# Altium integrated library Molex FFC - FPC Connectors (SMT).IntLib: 638 symbols (part 15 of 20)
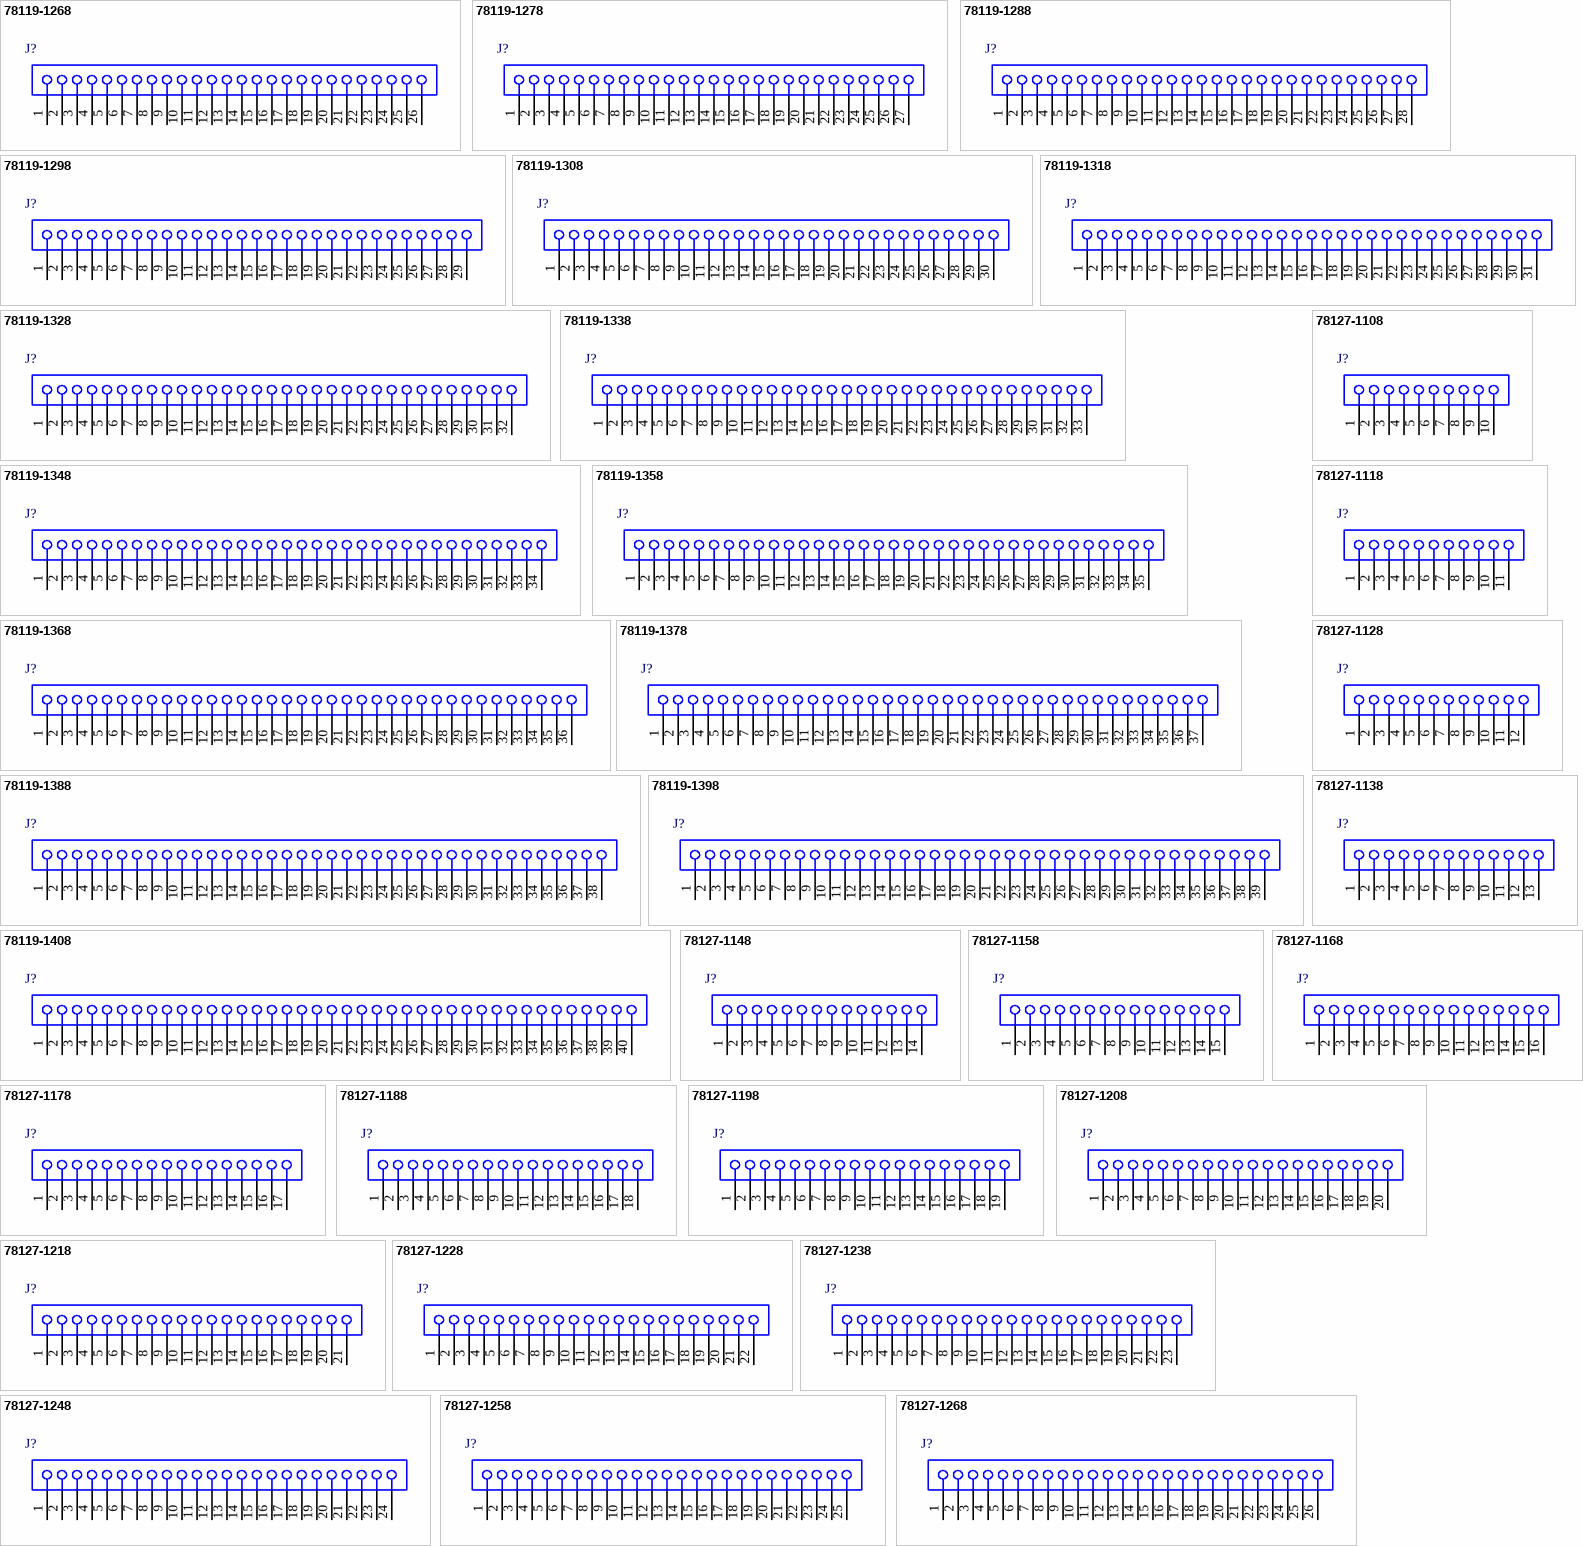
[diagram p35: symbols 78119-1268 to 78127-1268]

## 78127-1118
designator J?
0.5 mm Pitch Easy-On(TM) Type FPC Connector, 4.1 mm Mated Height, Vertical, Non-ZIF, SMT, 11 Circuits, -40 to 85 degC, ELV and RoHS Compliant, Tape and Reel; Manufacturer: Molex; PartNumber: 78127-1118; Circuits (Loaded): 11; Current (Max per Contact): 0.5A; Durability (mating cycles max): 20; Mated Height: 4.10mm; Material - Metal: Copper Alloy; Material - Plating Mating: Gold, Nickel; PCB Locator: No; PCB Retention: None; Pitch - Mating Interface: 0.50mm; Voltage (Max): 50V AC; PackageVersion: Rev. B, 12/2012; PackageReference: 78127-1118; PackageDescription: 11-Lead FPC Connector, Pitch 0.5 mm; Circuits (maximum): 11; Contact Position: N/A; Entry Angle: Vertical; Number of Rows: 1; Orientation: Vertical; Packing: Tape and Reel; Pitch - Termination Interface: 0.50mm; Polarized to PCB: No; RoHS: TRUE; Stackable: No; Mounting Technology: Surface Mount; ComponentLink1Description: Manufacturer URL; ComponentLink1URL: http://www.molex.com/molex/index.jsp; ComponentLink2Description: Datasheet; ComponentLink2URL: http://www.molex.com/webdocs/datasheets/pdf/en-us/0781271118_FFC_FPC_CONNECTORS.pdf; ComponentLink3Description: Package Specification; ComponentLink3URL: http://www.molex.com/pdm_docs/sd/781271118_sd.pdf
footprint MOLX-78127-1118 (FPC Connector, 11-Leads, Vertical, Pitch 0.5 mm, Mated Height 4.1 mm, SMT)
pins: 1, 2, 3, 4, 5, 6, 7, 8, 9, 10, 11

## 78127-1128
designator J?
0.5 mm Pitch Easy-On(TM) Type FPC Connector, 4.1 mm Mated Height, Vertical, Non-ZIF, SMT, 12 Circuits, -40 to 85 degC, ELV and RoHS Compliant, Tape and Reel; Manufacturer: Molex; PartNumber: 78127-1128; Circuits (Loaded): 12; Current (Max per Contact): 0.5A; Durability (mating cycles max): 20; Mated Height: 4.10mm; Material - Metal: Copper Alloy; Material - Plating Mating: Gold, Nickel; PCB Locator: No; PCB Retention: None; Pitch - Mating Interface: 0.50mm; Voltage (Max): 50V AC; PackageVersion: Rev. B, 12/2012; PackageReference: 78127-1128; PackageDescription: 12-Lead FPC Connector, Pitch 0.5 mm; Circuits (maximum): 12; Contact Position: N/A; Entry Angle: Vertical; Number of Rows: 1; Orientation: Vertical; Packing: Tape and Reel; Pitch - Termination Interface: 0.50mm; Polarized to PCB: No; RoHS: TRUE; Stackable: No; Mounting Technology: Surface Mount; ComponentLink1Description: Manufacturer URL; ComponentLink1URL: http://www.molex.com/molex/index.jsp; ComponentLink2Description: Datasheet; ComponentLink2URL: http://www.molex.com/webdocs/datasheets/pdf/en-us/0781271128_FFC_FPC_CONNECTORS.pdf; ComponentLink3Description: Package Specification; ComponentLink3URL: http://www.molex.com/pdm_docs/sd/781271128_sd.pdf
footprint MOLX-78127-1128 (FPC Connector, 12-Leads, Vertical, Pitch 0.5 mm, Mated Height 4.1 mm, SMT)
pins: 1, 2, 3, 4, 5, 6, 7, 8, 9, 10, 11, 12

## 78127-1138
designator J?
0.5 mm Pitch Easy-On(TM) Type FPC Connector, 4.1 mm Mated Height, Vertical, Non-ZIF, SMT, 13 Circuits, -40 to 85 degC, ELV and RoHS Compliant, Tape and Reel; Manufacturer: Molex; PartNumber: 78127-1138; Circuits (Loaded): 13; Current (Max per Contact): 0.5A; Durability (mating cycles max): 20; Mated Height: 4.10mm; Material - Metal: Copper Alloy; Material - Plating Mating: Gold, Nickel; PCB Locator: No; PCB Retention: None; Pitch - Mating Interface: 0.50mm; Voltage (Max): 50V AC; PackageVersion: Rev. B, 12/2012; PackageReference: 78127-1138; PackageDescription: 13-Lead FPC Connector, Pitch 0.5 mm; Circuits (maximum): 13; Contact Position: N/A; Entry Angle: Vertical; Number of Rows: 1; Orientation: Vertical; Packing: Tape and Reel; Pitch - Termination Interface: 0.50mm; Polarized to PCB: No; RoHS: TRUE; Stackable: No; Mounting Technology: Surface Mount; ComponentLink1Description: Manufacturer URL; ComponentLink1URL: http://www.molex.com/molex/index.jsp; ComponentLink2Description: Datasheet; ComponentLink2URL: http://www.molex.com/webdocs/datasheets/pdf/en-us/0781271138_FFC_FPC_CONNECTORS.pdf; ComponentLink3Description: Package Specification; ComponentLink3URL: http://www.molex.com/pdm_docs/sd/781271138_sd.pdf
footprint MOLX-78127-1138 (FPC Connector, 13-Leads, Vertical, Pitch 0.5 mm, Mated Height 4.1 mm, SMT)
pins: 1, 2, 3, 4, 5, 6, 7, 8, 9, 10, 11, 12, 13

## 78127-1148
designator J?
0.5 mm Pitch Easy-On(TM) Type FPC Connector, 4.1 mm Mated Height, Vertical, Non-ZIF, SMT, 14 Circuits, -40 to 85 degC, ELV and RoHS Compliant, Tape and Reel; Manufacturer: Molex; PartNumber: 78127-1148; Circuits (Loaded): 14; Current (Max per Contact): 0.5A; Durability (mating cycles max): 20; Mated Height: 4.10mm; Material - Metal: Copper Alloy; Material - Plating Mating: Gold, Nickel; PCB Locator: No; PCB Retention: None; Pitch - Mating Interface: 0.50mm; Voltage (Max): 50V AC; PackageVersion: Rev. B, 12/2012; PackageReference: 78127-1148; PackageDescription: 14-Lead FPC Connector, Pitch 0.5 mm; Circuits (maximum): 14; Contact Position: N/A; Entry Angle: Vertical; Number of Rows: 1; Orientation: Vertical; Packing: Tape and Reel; Pitch - Termination Interface: 0.50mm; Polarized to PCB: No; RoHS: TRUE; Stackable: No; Mounting Technology: Surface Mount; ComponentLink1Description: Manufacturer URL; ComponentLink1URL: http://www.molex.com/molex/index.jsp; ComponentLink2Description: Datasheet; ComponentLink2URL: http://www.molex.com/webdocs/datasheets/pdf/en-us/0781271148_FFC_FPC_CONNECTORS.pdf; ComponentLink3Description: Package Specification; ComponentLink3URL: http://www.molex.com/pdm_docs/sd/781271148_sd.pdf
footprint MOLX-78127-1148 (FPC Connector, 14-Leads, Vertical, Pitch 0.5 mm, Mated Height 4.1 mm, SMT)
pins: 1, 2, 3, 4, 5, 6, 7, 8, 9, 10, 11, 12, 13, 14

## 78127-1158
designator J?
0.5 mm Pitch Easy-On(TM) Type FPC Connector, 4.1 mm Mated Height, Vertical, Non-ZIF, SMT, 15 Circuits, -40 to 85 degC, ELV and RoHS Compliant, Tape and Reel; Manufacturer: Molex; PartNumber: 78127-1158; Circuits (Loaded): 15; Current (Max per Contact): 0.5A; Durability (mating cycles max): 20; Mated Height: 4.10mm; Material - Metal: Copper Alloy; Material - Plating Mating: Gold, Nickel; PCB Locator: No; PCB Retention: None; Pitch - Mating Interface: 0.50mm; Voltage (Max): 50V AC; PackageVersion: Rev. B, 12/2012; PackageReference: 78127-1158; PackageDescription: 15-Lead FPC Connector, Pitch 0.5 mm; Circuits (maximum): 15; Contact Position: N/A; Entry Angle: Vertical; Number of Rows: 1; Orientation: Vertical; Packing: Tape and Reel; Pitch - Termination Interface: 0.50mm; Polarized to PCB: No; RoHS: TRUE; Stackable: No; Mounting Technology: Surface Mount; ComponentLink1Description: Manufacturer URL; ComponentLink1URL: http://www.molex.com/molex/index.jsp; ComponentLink2Description: Datasheet; ComponentLink2URL: http://www.molex.com/webdocs/datasheets/pdf/en-us/0781271158_FFC_FPC_CONNECTORS.pdf; ComponentLink3Description: Package Specification; ComponentLink3URL: http://www.molex.com/pdm_docs/sd/781271158_sd.pdf
footprint MOLX-78127-1158 (FPC Connector, 15-Leads, Vertical, Pitch 0.5 mm, Mated Height 4.1 mm, SMT)
pins: 1, 2, 3, 4, 5, 6, 7, 8, 9, 10, 11, 12, 13, 14, 15

## 78127-1168
designator J?
0.5 mm Pitch Easy-On(TM) Type FPC Connector, 4.1 mm Mated Height, Vertical, Non-ZIF, SMT, 16 Circuits, -40 to 85 degC, ELV and RoHS Compliant, Tape and Reel; Manufacturer: Molex; PartNumber: 78127-1168; Circuits (Loaded): 16; Current (Max per Contact): 0.5A; Durability (mating cycles max): 20; Mated Height: 4.10mm; Material - Metal: Copper Alloy; Material - Plating Mating: Gold, Nickel; PCB Locator: No; PCB Retention: None; Pitch - Mating Interface: 0.50mm; Voltage (Max): 50V AC; PackageVersion: Rev. B, 12/2012; PackageReference: 78127-1168; PackageDescription: 16-Lead FPC Connector, Pitch 0.5 mm; Circuits (maximum): 16; Contact Position: N/A; Entry Angle: Vertical; Number of Rows: 1; Orientation: Vertical; Packing: Tape and Reel; Pitch - Termination Interface: 0.50mm; Polarized to PCB: No; RoHS: TRUE; Stackable: No; Mounting Technology: Surface Mount; ComponentLink1Description: Manufacturer URL; ComponentLink1URL: http://www.molex.com/molex/index.jsp; ComponentLink2Description: Datasheet; ComponentLink2URL: http://www.molex.com/webdocs/datasheets/pdf/en-us/0781271168_FFC_FPC_CONNECTORS.pdf; ComponentLink3Description: Package Specification; ComponentLink3URL: http://www.molex.com/pdm_docs/sd/781271168_sd.pdf
footprint MOLX-78127-1168 (FPC Connector, 16-Leads, Vertical, Pitch 0.5 mm, Mated Height 4.1 mm, SMT)
pins: 1, 2, 3, 4, 5, 6, 7, 8, 9, 10, 11, 12, 13, 14, 15, 16

## 78127-1178
designator J?
0.5 mm Pitch Easy-On(TM) Type FPC Connector, 4.1 mm Mated Height, Vertical, Non-ZIF, SMT, 17 Circuits, -40 to 85 degC, ELV and RoHS Compliant, Tape and Reel; Manufacturer: Molex; PartNumber: 78127-1178; Circuits (Loaded): 17; Current (Max per Contact): 0.5A; Durability (mating cycles max): 20; Mated Height: 4.10mm; Material - Metal: Copper Alloy; Material - Plating Mating: Gold, Nickel; PCB Locator: No; PCB Retention: None; Pitch - Mating Interface: 0.50mm; Voltage (Max): 50V AC; PackageVersion: Rev. B, 12/2012; PackageReference: 78127-1178; PackageDescription: 17-Lead FPC Connector, Pitch 0.5 mm; Circuits (maximum): 17; Contact Position: N/A; Entry Angle: Vertical; Number of Rows: 1; Orientation: Vertical; Packing: Tape and Reel; Pitch - Termination Interface: 0.50mm; Polarized to PCB: No; RoHS: TRUE; Stackable: No; Mounting Technology: Surface Mount; ComponentLink1Description: Manufacturer URL; ComponentLink1URL: http://www.molex.com/molex/index.jsp; ComponentLink2Description: Datasheet; ComponentLink2URL: http://www.molex.com/webdocs/datasheets/pdf/en-us/0781271178_FFC_FPC_CONNECTORS.pdf; ComponentLink3Description: Package Specification; ComponentLink3URL: http://www.molex.com/pdm_docs/sd/781271178_sd.pdf
footprint MOLX-78127-1178 (FPC Connector, 17-Leads, Vertical, Pitch 0.5 mm, Mated Height 4.1 mm, SMT)
pins: 1, 2, 3, 4, 5, 6, 7, 8, 9, 10, 11, 12, 13, 14, 15, 16, 17

## 78127-1188
designator J?
0.5 mm Pitch Easy-On(TM) Type FPC Connector, 4.1 mm Mated Height, Vertical, Non-ZIF, SMT, 18 Circuits, -40 to 85 degC, ELV and RoHS Compliant, Tape and Reel; Manufacturer: Molex; PartNumber: 78127-1188; Circuits (Loaded): 18; Current (Max per Contact): 0.5A; Durability (mating cycles max): 20; Mated Height: 4.10mm; Material - Metal: Copper Alloy; Material - Plating Mating: Gold, Nickel; PCB Locator: No; PCB Retention: None; Pitch - Mating Interface: 0.50mm; Voltage (Max): 50V AC; PackageVersion: Rev. B, 12/2012; PackageReference: 78127-1188; PackageDescription: 18-Lead FPC Connector, Pitch 0.5 mm; Circuits (maximum): 18; Contact Position: N/A; Entry Angle: Vertical; Number of Rows: 1; Orientation: Vertical; Packing: Tape and Reel; Pitch - Termination Interface: 0.50mm; Polarized to PCB: No; RoHS: TRUE; Stackable: No; Mounting Technology: Surface Mount; ComponentLink1Description: Manufacturer URL; ComponentLink1URL: http://www.molex.com/molex/index.jsp; ComponentLink2Description: Datasheet; ComponentLink2URL: http://www.molex.com/webdocs/datasheets/pdf/en-us/0781271188_FFC_FPC_CONNECTORS.pdf; ComponentLink3Description: Package Specification; ComponentLink3URL: http://www.molex.com/pdm_docs/sd/781271188_sd.pdf
footprint MOLX-78127-1188 (FPC Connector, 18-Leads, Vertical, Pitch 0.5 mm, Mated Height 4.1 mm, SMT)
pins: 1, 2, 3, 4, 5, 6, 7, 8, 9, 10, 11, 12, 13, 14, 15, 16, 17, 18

## 78127-1198
designator J?
0.5 mm Pitch Easy-On(TM) Type FPC Connector, 4.1 mm Mated Height, Vertical, Non-ZIF, SMT, 19 Circuits, -40 to 85 degC, ELV and RoHS Compliant, Tape and Reel; Manufacturer: Molex; PartNumber: 78127-1198; Circuits (Loaded): 19; Current (Max per Contact): 0.5A; Durability (mating cycles max): 20; Mated Height: 4.10mm; Material - Metal: Copper Alloy; Material - Plating Mating: Gold, Nickel; PCB Locator: No; PCB Retention: None; Pitch - Mating Interface: 0.50mm; Voltage (Max): 50V AC; PackageVersion: Rev. B, 12/2012; PackageReference: 78127-1198; PackageDescription: 19-Lead FPC Connector, Pitch 0.5 mm; Circuits (maximum): 19; Contact Position: N/A; Entry Angle: Vertical; Number of Rows: 1; Orientation: Vertical; Packing: Tape and Reel; Pitch - Termination Interface: 0.50mm; Polarized to PCB: No; RoHS: TRUE; Stackable: No; Mounting Technology: Surface Mount; ComponentLink1Description: Manufacturer URL; ComponentLink1URL: http://www.molex.com/molex/index.jsp; ComponentLink2Description: Datasheet; ComponentLink2URL: http://www.molex.com/webdocs/datasheets/pdf/en-us/0781271198_FFC_FPC_CONNECTORS.pdf; ComponentLink3Description: Package Specification; ComponentLink3URL: http://www.molex.com/pdm_docs/sd/781271198_sd.pdf
footprint MOLX-78127-1198 (FPC Connector, 19-Leads, Vertical, Pitch 0.5 mm, Mated Height 4.1 mm, SMT)
pins: 1, 2, 3, 4, 5, 6, 7, 8, 9, 10, 11, 12, 13, 14, 15, 16, 17, 18, 19

## 78127-1208
designator J?
0.5 mm Pitch Easy-On(TM) Type FPC Connector, 4.1 mm Mated Height, Vertical, Non-ZIF, SMT, 20 Circuits, -40 to 85 degC, ELV and RoHS Compliant, Tape and Reel; Manufacturer: Molex; PartNumber: 78127-1208; Circuits (Loaded): 20; Current (Max per Contact): 0.5A; Mated Height: 4.10mm; Material - Metal: Copper Alloy; Material - Plating Mating: Gold, Nickel; PCB Locator: No; PCB Retention: None; Pitch - Mating Interface: 0.50mm; Voltage (Max): 50V AC; PackageVersion: Rev. B, 12/2012; PackageReference: 78127-1208; PackageDescription: 20-Lead FPC Connector, Pitch 0.5 mm; Circuits (maximum): 20; Contact Position: N/A; Durability (mating cycles max): 20; Entry Angle: Vertical; Number of Rows: 1; Orientation: Vertical; Packing: Tape and Reel; Pitch - Termination Interface: 0.50mm; Polarized to PCB: No; RoHS: TRUE; Stackable: No; Mounting Technology: Surface Mount; ComponentLink1Description: Manufacturer URL; ComponentLink1URL: http://www.molex.com/molex/index.jsp; ComponentLink2Description: Datasheet; ComponentLink2URL: http://www.molex.com/webdocs/datasheets/pdf/en-us/0781271208_FFC_FPC_CONNECTORS.pdf; ComponentLink3Description: Package Specification; ComponentLink3URL: http://www.molex.com/pdm_docs/sd/781271208_sd.pdf
footprint MOLX-78127-1208 (FPC Connector, 20-Leads, Vertical, Pitch 0.5 mm, Mated Height 4.1 mm, SMT)
pins: 1, 2, 3, 4, 5, 6, 7, 8, 9, 10, 11, 12, 13, 14, 15, 16, 17, 18, 19, 20

## 78127-1218
designator J?
0.5 mm Pitch Easy-On(TM) Type FPC Connector, 4.1 mm Mated Height, Vertical, Non-ZIF, SMT, 21 Circuits, -40 to 85 degC, ELV and RoHS Compliant, Tape and Reel; Manufacturer: Molex; PartNumber: 78127-1218; Circuits (Loaded): 21; Current (Max per Contact): 0.5A; Durability (mating cycles max): 20; Mated Height: 4.10mm; Material - Metal: Copper Alloy; Material - Plating Mating: Gold, Nickel; PCB Locator: No; PCB Retention: None; Pitch - Mating Interface: 0.50mm; Voltage (Max): 50V AC; PackageVersion: Rev. B, 12/2012; PackageReference: 78127-1218; PackageDescription: 21-Lead FPC Connector, Pitch 0.5 mm; Circuits (maximum): 21; Contact Position: N/A; Entry Angle: Vertical; Number of Rows: 1; Orientation: Vertical; Packing: Tape and Reel; Pitch - Termination Interface: 0.50mm; Polarized to PCB: No; RoHS: TRUE; Stackable: No; Mounting Technology: Surface Mount; ComponentLink1Description: Manufacturer URL; ComponentLink1URL: http://www.molex.com/molex/index.jsp; ComponentLink2Description: Datasheet; ComponentLink2URL: http://www.molex.com/webdocs/datasheets/pdf/en-us/0781271218_FFC_FPC_CONNECTORS.pdf; ComponentLink3Description: Package Specification; ComponentLink3URL: http://www.molex.com/pdm_docs/sd/781271218_sd.pdf
footprint MOLX-78127-1218 (FPC Connector, 21-Leads, Vertical, Pitch 0.5 mm, Mated Height 4.1 mm, SMT)
pins: 1, 2, 3, 4, 5, 6, 7, 8, 9, 10, 11, 12, 13, 14, 15, 16, 17, 18, 19, 20, 21

## 78127-1228
designator J?
0.5 mm Pitch Easy-On(TM) Type FPC Connector, 4.1 mm Mated Height, Vertical, Non-ZIF, SMT, 22 Circuits, -40 to 85 degC, ELV and RoHS Compliant, Tape and Reel; Manufacturer: Molex; PartNumber: 78127-1228; Circuits (Loaded): 22; Current (Max per Contact): 0.5A; Durability (mating cycles max): 20; Mated Height: 4.10mm; Material - Metal: Copper Alloy; Material - Plating Mating: Gold, Nickel; PCB Locator: No; PCB Retention: None; Pitch - Mating Interface: 0.50mm; Voltage (Max): 50V AC; PackageVersion: Rev. B, 12/2012; PackageReference: 78127-1228; PackageDescription: 22-Lead FPC Connector, Pitch 0.5 mm; Circuits (maximum): 22; Contact Position: N/A; Entry Angle: Vertical; Number of Rows: 1; Orientation: Vertical; Packing: Tape and Reel; Pitch - Termination Interface: 0.50mm; Polarized to PCB: No; RoHS: TRUE; Stackable: No; Mounting Technology: Surface Mount; ComponentLink1Description: Manufacturer URL; ComponentLink1URL: http://www.molex.com/molex/index.jsp; ComponentLink2Description: Datasheet; ComponentLink2URL: http://www.molex.com/webdocs/datasheets/pdf/en-us/0781271228_FFC_FPC_CONNECTORS.pdf; ComponentLink3Description: Package Specification; ComponentLink3URL: http://www.molex.com/pdm_docs/sd/781271228_sd.pdf
footprint MOLX-78127-1228 (FPC Connector, 22-Leads, Vertical, Pitch 0.5 mm, Mated Height 4.1 mm, SMT)
pins: 1, 2, 3, 4, 5, 6, 7, 8, 9, 10, 11, 12, 13, 14, 15, 16, 17, 18, 19, 20, 21, 22

## 78127-1238
designator J?
0.5 mm Pitch Easy-On(TM) Type FPC Connector, 4.1 mm Mated Height, Vertical, Non-ZIF, SMT, 23 Circuits, -40 to 85 degC, ELV and RoHS Compliant, Tape and Reel; Manufacturer: Molex; PartNumber: 78127-1238; Circuits (Loaded): 23; Current (Max per Contact): 0.5A; Durability (mating cycles max): 20; Mated Height: 4.10mm; Material - Metal: Copper Alloy; Material - Plating Mating: Gold, Nickel; PCB Locator: No; PCB Retention: None; Pitch - Mating Interface: 0.50mm; Voltage (Max): 50V AC; PackageVersion: Rev. B, 12/2012; PackageReference: 78127-1238; PackageDescription: 23-Lead FPC Connector, Pitch 0.5 mm; Circuits (maximum): 23; Contact Position: N/A; Entry Angle: Vertical; Number of Rows: 1; Orientation: Vertical; Packing: Tape and Reel; Pitch - Termination Interface: 0.50mm; Polarized to PCB: No; RoHS: TRUE; Stackable: No; Mounting Technology: Surface Mount; ComponentLink1Description: Manufacturer URL; ComponentLink1URL: http://www.molex.com/molex/index.jsp; ComponentLink2Description: Datasheet; ComponentLink2URL: http://www.molex.com/webdocs/datasheets/pdf/en-us/0781271238_FFC_FPC_CONNECTORS.pdf; ComponentLink3Description: Package Specification; ComponentLink3URL: http://www.molex.com/pdm_docs/sd/781271238_sd.pdf
footprint MOLX-78127-1238 (FPC Connector, 23-Leads, Vertical, Pitch 0.5 mm, Mated Height 4.1 mm, SMT)
pins: 1, 2, 3, 4, 5, 6, 7, 8, 9, 10, 11, 12, 13, 14, 15, 16, 17, 18, 19, 20, 21, 22, 23

## 78127-1248
designator J?
0.5 mm Pitch Easy-On(TM) Type FPC Connector, 4.1 mm Mated Height, Vertical, Non-ZIF, SMT, 24 Circuits, -40 to 85 degC, ELV and RoHS Compliant, Tape and Reel; Manufacturer: Molex; PartNumber: 78127-1248; Circuits (Loaded): 24; Current (Max per Contact): 0.5A; Durability (mating cycles max): 20; Mated Height: 4.10mm; Material - Metal: Copper Alloy; Material - Plating Mating: Gold, Nickel; PCB Locator: No; PCB Retention: None; Pitch - Mating Interface: 0.50mm; Voltage (Max): 50V AC; PackageVersion: Rev. B, 12/2012; PackageReference: 78127-1248; PackageDescription: 24-Lead FPC Connector, Pitch 0.5 mm; Circuits (maximum): 24; Contact Position: N/A; Entry Angle: Vertical; Number of Rows: 1; Orientation: Vertical; Packing: Tape and Reel; Pitch - Termination Interface: 0.50mm; Polarized to PCB: No; RoHS: TRUE; Stackable: No; Mounting Technology: Surface Mount; ComponentLink1Description: Manufacturer URL; ComponentLink1URL: http://www.molex.com/molex/index.jsp; ComponentLink2Description: Datasheet; ComponentLink2URL: http://www.molex.com/webdocs/datasheets/pdf/en-us/0781271248_FFC_FPC_CONNECTORS.pdf; ComponentLink3Description: Package Specification; ComponentLink3URL: http://www.molex.com/pdm_docs/sd/781271248_sd.pdf
footprint MOLX-78127-1248 (FPC Connector, 24-Leads, Vertical, Pitch 0.5 mm, Mated Height 4.1 mm, SMT)
pins: 1, 2, 3, 4, 5, 6, 7, 8, 9, 10, 11, 12, 13, 14, 15, 16, 17, 18, 19, 20, 21, 22, 23, 24

## 78127-1258
designator J?
0.5 mm Pitch Easy-On(TM) Type FPC Connector, 4.1 mm Mated Height, Vertical, Non-ZIF, SMT, 25 Circuits, -40 to 85 degC, ELV and RoHS Compliant, Tape and Reel; Manufacturer: Molex; PartNumber: 78127-1258; Circuits (Loaded): 25; Current (Max per Contact): 0.5A; Durability (mating cycles max): 20; Mated Height: 4.10mm; Material - Metal: Copper Alloy; Material - Plating Mating: Gold, Nickel; PCB Locator: No; PCB Retention: None; Pitch - Mating Interface: 0.50mm; Voltage (Max): 50V AC; PackageVersion: Rev. B, 12/2012; PackageReference: 78127-1258; PackageDescription: 25-Lead FPC Connector, Pitch 0.5 mm; Circuits (maximum): 25; Contact Position: N/A; Entry Angle: Vertical; Number of Rows: 1; Orientation: Vertical; Packing: Tape and Reel; Pitch - Termination Interface: 0.50mm; Polarized to PCB: No; RoHS: TRUE; Stackable: No; Mounting Technology: Surface Mount; ComponentLink1Description: Manufacturer URL; ComponentLink1URL: http://www.molex.com/molex/index.jsp; ComponentLink2Description: Datasheet; ComponentLink2URL: http://www.molex.com/webdocs/datasheets/pdf/en-us/0781271258_FFC_FPC_CONNECTORS.pdf; ComponentLink3Description: Package Specification; ComponentLink3URL: http://www.molex.com/pdm_docs/sd/781271258_sd.pdf
footprint MOLX-78127-1258 (FPC Connector, 25-Leads, Vertical, Pitch 0.5 mm, Mated Height 4.1 mm, SMT)
pins: 1, 2, 3, 4, 5, 6, 7, 8, 9, 10, 11, 12, 13, 14, 15, 16, 17, 18, 19, 20, 21, 22, 23, 24, 25

## 78127-1268
designator J?
0.5 mm Pitch Easy-On(TM) Type FPC Connector, 4.1 mm Mated Height, Vertical, Non-ZIF, SMT, 26 Circuits, -40 to 85 degC, ELV and RoHS Compliant, Tape and Reel; Manufacturer: Molex; PartNumber: 78127-1268; Circuits (Loaded): 26; Current (Max per Contact): 0.5A; Durability (mating cycles max): 20; Mated Height: 4.10mm; Material - Metal: Copper Alloy; Material - Plating Mating: Gold, Nickel; PCB Locator: No; PCB Retention: None; Pitch - Mating Interface: 0.50mm; Voltage (Max): 50V AC; PackageVersion: Rev. B, 12/2012; PackageReference: 78127-1268; PackageDescription: 26-Lead FPC Connector, Pitch 0.5 mm; Circuits (maximum): 26; Contact Position: N/A; Entry Angle: Vertical; Number of Rows: 1; Orientation: Vertical; Packing: Tape and Reel; Pitch - Termination Interface: 0.50mm; Polarized to PCB: No; RoHS: TRUE; Stackable: No; Mounting Technology: Surface Mount; ComponentLink1Description: Manufacturer URL; ComponentLink1URL: http://www.molex.com/molex/index.jsp; ComponentLink2Description: Datasheet; ComponentLink2URL: http://www.molex.com/webdocs/datasheets/pdf/en-us/0781271268_FFC_FPC_CONNECTORS.pdf; ComponentLink3Description: Package Specification; ComponentLink3URL: http://www.molex.com/pdm_docs/sd/781271268_sd.pdf
footprint MOLX-78127-1268 (FPC Connector, 26-Leads, Vertical, Pitch 0.5 mm, Mated Height 4.1 mm, SMT)
pins: 1, 2, 3, 4, 5, 6, 7, 8, 9, 10, 11, 12, 13, 14, 15, 16, 17, 18, 19, 20, 21, 22, 23, 24, 25, 26

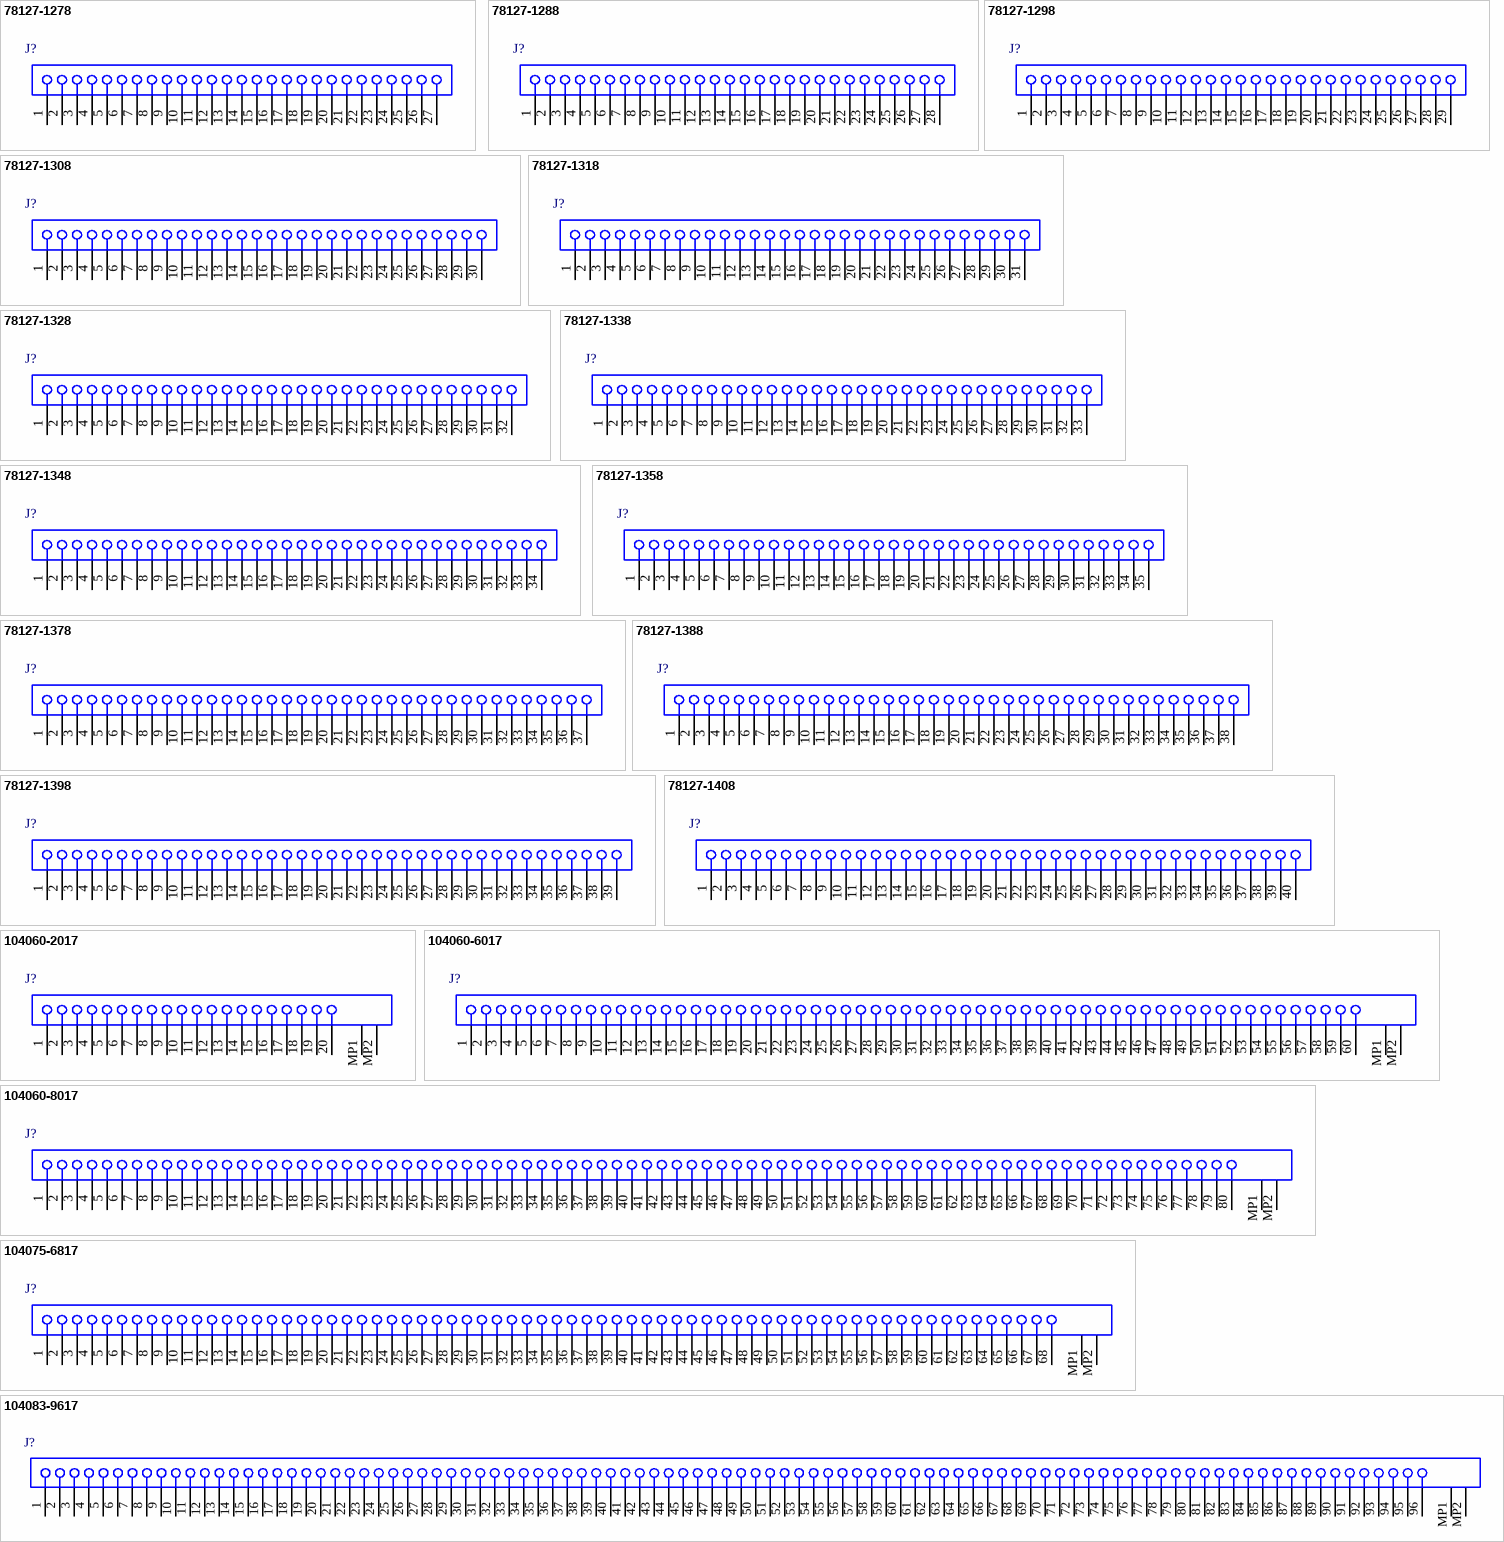
[diagram p14: symbols 78127-1278 to 104083-9617]

## 78127-1278
designator J?
0.5 mm Pitch Easy-On(TM) Type FPC Connector, 4.1 mm Mated Height, Vertical, Non-ZIF, SMT, 27 Circuits, -40 to 85 degC, ELV and RoHS Compliant, Tape and Reel; Manufacturer: Molex; PartNumber: 78127-1278; Circuits (Loaded): 27; Current (Max per Contact): 0.5A; Durability (mating cycles max): 20; Mated Height: 4.10mm; Material - Metal: Copper Alloy; Material - Plating Mating: Gold, Nickel; PCB Locator: No; PCB Retention: None; Pitch - Mating Interface: 0.50mm; Voltage (Max): 50V AC; PackageVersion: Rev. B, 12/2012; PackageReference: 78127-1278; PackageDescription: 27-Lead FPC Connector, Pitch 0.5 mm; Circuits (maximum): 27; Contact Position: N/A; Entry Angle: Vertical; Number of Rows: 1; Orientation: Vertical; Packing: Tape and Reel; Pitch - Termination Interface: 0.50mm; Polarized to PCB: No; RoHS: TRUE; Stackable: No; Mounting Technology: Surface Mount; ComponentLink1Description: Manufacturer URL; ComponentLink1URL: http://www.molex.com/molex/index.jsp; ComponentLink2Description: Datasheet; ComponentLink2URL: http://www.molex.com/webdocs/datasheets/pdf/en-us/0781271278_FFC_FPC_CONNECTORS.pdf; ComponentLink3Description: Package Specification; ComponentLink3URL: http://www.molex.com/pdm_docs/sd/781271278_sd.pdf
footprint MOLX-78127-1278 (FPC Connector, 27-Leads, Vertical, Pitch 0.5 mm, Mated Height 4.1 mm, SMT)
pins: 1, 2, 3, 4, 5, 6, 7, 8, 9, 10, 11, 12, 13, 14, 15, 16, 17, 18, 19, 20, 21, 22, 23, 24, 25, 26, 27

## 78127-1288
designator J?
0.5 mm Pitch Easy-On(TM) Type FPC Connector, 4.1 mm Mated Height, Vertical, Non-ZIF, SMT, 28 Circuits, -40 to 85 degC, ELV and RoHS Compliant, Tape and Reel; Manufacturer: Molex; PartNumber: 78127-1288; Circuits (Loaded): 28; Current (Max per Contact): 0.5A; Durability (mating cycles max): 20; Mated Height: 4.10mm; Material - Metal: Copper Alloy; Material - Plating Mating: Gold, Nickel; PCB Locator: No; PCB Retention: None; Pitch - Mating Interface: 0.50mm; Voltage (Max): 50V AC; PackageVersion: Rev. B, 12/2012; PackageReference: 78127-1288; PackageDescription: 28-Lead FPC Connector, Pitch 0.5 mm; Circuits (maximum): 28; Contact Position: N/A; Entry Angle: Vertical; Number of Rows: 1; Orientation: Vertical; Packing: Tape and Reel; Pitch - Termination Interface: 0.50mm; Polarized to PCB: No; RoHS: TRUE; Stackable: No; Mounting Technology: Surface Mount; ComponentLink1Description: Manufacturer URL; ComponentLink1URL: http://www.molex.com/molex/index.jsp; ComponentLink2Description: Datasheet; ComponentLink2URL: http://www.molex.com/webdocs/datasheets/pdf/en-us/0781271288_FFC_FPC_CONNECTORS.pdf; ComponentLink3Description: Package Specification; ComponentLink3URL: http://www.molex.com/pdm_docs/sd/781271288_sd.pdf
footprint MOLX-78127-1288 (FPC Connector, 28-Leads, Vertical, Pitch 0.5 mm, Mated Height 4.1 mm, SMT)
pins: 1, 2, 3, 4, 5, 6, 7, 8, 9, 10, 11, 12, 13, 14, 15, 16, 17, 18, 19, 20, 21, 22, 23, 24, 25, 26, 27, 28

## 78127-1298
designator J?
0.5 mm Pitch Easy-On(TM) Type FPC Connector, 4.1 mm Mated Height, Vertical, Non-ZIF, SMT, 29 Circuits, -40 to 85 degC, ELV and RoHS Compliant, Tape and Reel; Manufacturer: Molex; PartNumber: 78127-1298; Circuits (Loaded): 29; Current (Max per Contact): 0.5A; Durability (mating cycles max): 20; Mated Height: 4.10mm; Material - Metal: Copper Alloy; Material - Plating Mating: Gold, Nickel; PCB Locator: No; PCB Retention: None; Pitch - Mating Interface: 0.50mm; Voltage (Max): 50V AC; PackageVersion: Rev. B, 12/2012; PackageReference: 78127-1298; PackageDescription: 29-Lead FPC Connector, Pitch 0.5 mm; Circuits (maximum): 29; Contact Position: N/A; Entry Angle: Vertical; Number of Rows: 1; Orientation: Vertical; Packing: Tape and Reel; Pitch - Termination Interface: 0.50mm; Polarized to PCB: No; RoHS: TRUE; Stackable: No; Mounting Technology: Surface Mount; ComponentLink1Description: Manufacturer URL; ComponentLink1URL: http://www.molex.com/molex/index.jsp; ComponentLink2Description: Datasheet; ComponentLink2URL: http://www.molex.com/webdocs/datasheets/pdf/en-us/0781271298_FFC_FPC_CONNECTORS.pdf; ComponentLink3Description: Package Specification; ComponentLink3URL: http://www.molex.com/pdm_docs/sd/781271298_sd.pdf
footprint MOLX-78127-1298 (FPC Connector, 29-Leads, Vertical, Pitch 0.5 mm, Mated Height 4.1 mm, SMT)
pins: 1, 2, 3, 4, 5, 6, 7, 8, 9, 10, 11, 12, 13, 14, 15, 16, 17, 18, 19, 20, 21, 22, 23, 24, 25, 26, 27, 28, 29

## 78127-1308
designator J?
0.5 mm Pitch Easy-On(TM) Type FPC Connector, 4.1 mm Mated Height, Vertical, Non-ZIF, SMT, 30 Circuits, -40 to 85 degC, ELV and RoHS Compliant, Tape and Reel; Manufacturer: Molex; PartNumber: 78127-1308; Circuits (Loaded): 30; Current (Max per Contact): 0.5A; Durability (mating cycles max): 20; Mated Height: 4.10mm; Material - Metal: Copper Alloy; Material - Plating Mating: Gold, Nickel; PCB Locator: No; PCB Retention: None; Pitch - Mating Interface: 0.50mm; Voltage (Max): 50V AC; PackageVersion: Rev. B, 12/2012; PackageReference: 78127-1308; PackageDescription: 30-Lead FPC Connector, Pitch 0.5 mm; Circuits (maximum): 30; Contact Position: N/A; Entry Angle: Vertical; Number of Rows: 1; Orientation: Vertical; Packing: Tape and Reel; Pitch - Termination Interface: 0.50mm; Polarized to PCB: No; RoHS: TRUE; Stackable: No; Mounting Technology: Surface Mount; ComponentLink1Description: Manufacturer URL; ComponentLink1URL: http://www.molex.com/molex/index.jsp; ComponentLink2Description: Datasheet; ComponentLink2URL: http://www.molex.com/webdocs/datasheets/pdf/en-us/0781271308_FFC_FPC_CONNECTORS.pdf; ComponentLink3Description: Package Specification; ComponentLink3URL: http://www.molex.com/pdm_docs/sd/781271308_sd.pdf
footprint MOLX-78127-1308 (FPC Connector, 30-Leads, Vertical, Pitch 0.5 mm, Mated Height 4.1 mm, SMT)
pins: 1, 2, 3, 4, 5, 6, 7, 8, 9, 10, 11, 12, 13, 14, 15, 16, 17, 18, 19, 20, 21, 22, 23, 24, 25, 26, 27, 28, 29, 30

## 78127-1318
designator J?
0.5 mm Pitch Easy-On(TM) Type FPC Connector, 4.1 mm Mated Height, Vertical, Non-ZIF, SMT, 31 Circuits, -40 to 85 degC, ELV and RoHS Compliant, Tape and Reel; Manufacturer: Molex; PartNumber: 78127-1318; Circuits (Loaded): 31; Current (Max per Contact): 0.5A; Durability (mating cycles max): 20; Mated Height: 4.10mm; Material - Metal: Copper Alloy; Material - Plating Mating: Gold, Nickel; PCB Locator: No; PCB Retention: None; Pitch - Mating Interface: 0.50mm; Voltage (Max): 50V AC; PackageVersion: Rev. B, 12/2012; PackageReference: 78127-1318; PackageDescription: 31-Lead FPC Connector, Pitch 0.5 mm; Circuits (maximum): 31; Contact Position: N/A; Entry Angle: Vertical; Number of Rows: 1; Orientation: Vertical; Packing: Tape and Reel; Pitch - Termination Interface: 0.50mm; Polarized to PCB: No; RoHS: TRUE; Stackable: No; Mounting Technology: Surface Mount; ComponentLink1Description: Manufacturer URL; ComponentLink1URL: http://www.molex.com/molex/index.jsp; ComponentLink2Description: Datasheet; ComponentLink2URL: http://www.molex.com/webdocs/datasheets/pdf/en-us/0781271318_FFC_FPC_CONNECTORS.pdf; ComponentLink3Description: Package Specification; ComponentLink3URL: http://www.molex.com/pdm_docs/sd/781271318_sd.pdf
footprint MOLX-78127-1318 (FPC Connector, 31-Leads, Vertical, Pitch 0.5 mm, Mated Height 4.1 mm, SMT)
pins: 1, 2, 3, 4, 5, 6, 7, 8, 9, 10, 11, 12, 13, 14, 15, 16, 17, 18, 19, 20, 21, 22, 23, 24, 25, 26, 27, 28, 29, 30, 31

## 78127-1328
designator J?
0.5 mm Pitch Easy-On(TM) Type FPC Connector, 4.1 mm Mated Height, Vertical, Non-ZIF, SMT, 32 Circuits, -40 to 85 degC, ELV and RoHS Compliant, Tape and Reel; Manufacturer: Molex; PartNumber: 78127-1328; Circuits (Loaded): 32; Current (Max per Contact): 0.5A; Durability (mating cycles max): 20; Mated Height: 4.10mm; Material - Metal: Copper Alloy; Material - Plating Mating: Gold, Nickel; PCB Locator: No; PCB Retention: None; Pitch - Mating Interface: 0.50mm; Voltage (Max): 50V AC; PackageVersion: Rev. B, 12/2012; PackageReference: 78127-1328; PackageDescription: 32-Lead FPC Connector, Pitch 0.5 mm; Circuits (maximum): 32; Contact Position: N/A; Entry Angle: Vertical; Number of Rows: 1; Orientation: Vertical; Packing: Tape and Reel; Pitch - Termination Interface: 0.50mm; Polarized to PCB: No; RoHS: TRUE; Stackable: No; Mounting Technology: Surface Mount; ComponentLink1Description: Manufacturer URL; ComponentLink1URL: http://www.molex.com/molex/index.jsp; ComponentLink2Description: Datasheet; ComponentLink2URL: http://www.molex.com/webdocs/datasheets/pdf/en-us/0781271328_FFC_FPC_CONNECTORS.pdf; ComponentLink3Description: Package Specification; ComponentLink3URL: http://www.molex.com/pdm_docs/sd/781271328_sd.pdf
footprint MOLX-78127-1328 (FPC Connector, 32-Leads, Vertical, Pitch 0.5 mm, Mated Height 4.1 mm, SMT)
pins: 1, 2, 3, 4, 5, 6, 7, 8, 9, 10, 11, 12, 13, 14, 15, 16, 17, 18, 19, 20, 21, 22, 23, 24, 25, 26, 27, 28, 29, 30, 31, 32

## 78127-1338
designator J?
0.5 mm Pitch Easy-On(TM) Type FPC Connector, 4.1 mm Mated Height, Vertical, Non-ZIF, SMT, 33 Circuits, -40 to 85 degC, ELV and RoHS Compliant, Tape and Reel; Manufacturer: Molex; PartNumber: 78127-1338; Circuits (Loaded): 33; Current (Max per Contact): 0.5A; Durability (mating cycles max): 20; Mated Height: 4.10mm; Material - Metal: Copper Alloy; Material - Plating Mating: Gold, Nickel; PCB Locator: No; PCB Retention: None; Pitch - Mating Interface: 0.50mm; Voltage (Max): 50V AC; PackageVersion: Rev. B, 12/2012; PackageReference: 78127-1338; PackageDescription: 33-Lead FPC Connector, Pitch 0.5 mm; Circuits (maximum): 33; Contact Position: N/A; Entry Angle: Vertical; Number of Rows: 1; Orientation: Vertical; Packing: Tape and Reel; Pitch - Termination Interface: 0.50mm; Polarized to PCB: No; RoHS: TRUE; Stackable: No; Mounting Technology: Surface Mount; ComponentLink1Description: Manufacturer URL; ComponentLink1URL: http://www.molex.com/molex/index.jsp; ComponentLink2Description: Datasheet; ComponentLink2URL: http://www.molex.com/webdocs/datasheets/pdf/en-us/0781271338_FFC_FPC_CONNECTORS.pdf; ComponentLink3Description: Package Specification; ComponentLink3URL: http://www.molex.com/pdm_docs/sd/781271338_sd.pdf
footprint MOLX-78127-1338 (FPC Connector, 33-Leads, Vertical, Pitch 0.5 mm, Mated Height 4.1 mm, SMT)
pins: 1, 2, 3, 4, 5, 6, 7, 8, 9, 10, 11, 12, 13, 14, 15, 16, 17, 18, 19, 20, 21, 22, 23, 24, 25, 26, 27, 28, 29, 30, 31, 32, 33

## 78127-1348
designator J?
0.5 mm Pitch Easy-On(TM) Type FPC Connector, 4.1 mm Mated Height, Vertical, Non-ZIF, SMT, 34 Circuits, -40 to 85 degC, ELV and RoHS Compliant, Tape and Reel; Manufacturer: Molex; PartNumber: 78127-1348; Circuits (Loaded): 34; Current (Max per Contact): 0.5A; Durability (mating cycles max): 20; Mated Height: 4.10mm; Material - Metal: Copper Alloy; Material - Plating Mating: Gold, Nickel; PCB Locator: No; PCB Retention: None; Pitch - Mating Interface: 0.50mm; Voltage (Max): 50V AC; PackageVersion: Rev. B, 12/2012; PackageReference: 78127-1348; PackageDescription: 34-Lead FPC Connector, Pitch 0.5 mm; Circuits (maximum): 34; Contact Position: N/A; Entry Angle: Vertical; Number of Rows: 1; Orientation: Vertical; Packing: Tape and Reel; Pitch - Termination Interface: 0.50mm; Polarized to PCB: No; RoHS: TRUE; Stackable: No; Mounting Technology: Surface Mount; ComponentLink1Description: Manufacturer URL; ComponentLink1URL: http://www.molex.com/molex/index.jsp; ComponentLink2Description: Datasheet; ComponentLink2URL: http://www.molex.com/webdocs/datasheets/pdf/en-us/0781271348_FFC_FPC_CONNECTORS.pdf; ComponentLink3Description: Package Specification; ComponentLink3URL: http://www.molex.com/pdm_docs/sd/781271348_sd.pdf
footprint MOLX-78127-1348 (FPC Connector, 34-Leads, Vertical, Pitch 0.5 mm, Mated Height 4.1 mm, SMT)
pins: 1, 2, 3, 4, 5, 6, 7, 8, 9, 10, 11, 12, 13, 14, 15, 16, 17, 18, 19, 20, 21, 22, 23, 24, 25, 26, 27, 28, 29, 30, 31, 32, 33, 34

## 78127-1358
designator J?
0.5 mm Pitch Easy-On(TM) Type FPC Connector, 4.1 mm Mated Height, Vertical, Non-ZIF, SMT, 35 Circuits, -40 to 85 degC, ELV and RoHS Compliant, Tape and Reel; Manufacturer: Molex; PartNumber: 78127-1358; Circuits (Loaded): 35; Current (Max per Contact): 0.5A; Durability (mating cycles max): 20; Mated Height: 4.10mm; Material - Metal: Copper Alloy; Material - Plating Mating: Gold, Nickel; PCB Locator: No; PCB Retention: None; Pitch - Mating Interface: 0.50mm; Voltage (Max): 50V AC; PackageVersion: Rev. B, 12/2012; PackageReference: 78127-1358; PackageDescription: 35-Lead FPC Connector, Pitch 0.5 mm; Circuits (maximum): 35; Contact Position: N/A; Entry Angle: Vertical; Number of Rows: 1; Orientation: Vertical; Packing: Tape and Reel; Pitch - Termination Interface: 0.50mm; Polarized to PCB: No; RoHS: TRUE; Stackable: No; Mounting Technology: Surface Mount; ComponentLink1Description: Manufacturer URL; ComponentLink1URL: http://www.molex.com/molex/index.jsp; ComponentLink2Description: Datasheet; ComponentLink2URL: http://www.molex.com/webdocs/datasheets/pdf/en-us/0781271358_FFC_FPC_CONNECTORS.pdf; ComponentLink3Description: Package Specification; ComponentLink3URL: http://www.molex.com/pdm_docs/sd/781271358_sd.pdf
footprint MOLX-78127-1358 (FPC Connector, 35-Leads, Vertical, Pitch 0.5 mm, Mated Height 4.1 mm, SMT)
pins: 1, 2, 3, 4, 5, 6, 7, 8, 9, 10, 11, 12, 13, 14, 15, 16, 17, 18, 19, 20, 21, 22, 23, 24, 25, 26, 27, 28, 29, 30, 31, 32, 33, 34, 35

## 78127-1378
designator J?
0.5 mm Pitch Easy-On(TM) Type FPC Connector, 4.1 mm Mated Height, Vertical, Non-ZIF, SMT, 37 Circuits, -40 to 85 degC, ELV and RoHS Compliant, Tape and Reel; Manufacturer: Molex; PartNumber: 78127-1378; Circuits (Loaded): 37; Current (Max per Contact): 0.5A; Durability (mating cycles max): 20; Mated Height: 4.10mm; Material - Metal: Copper Alloy; Material - Plating Mating: Gold, Nickel; PCB Locator: No; PCB Retention: None; Pitch - Mating Interface: 0.50mm; Voltage (Max): 50V AC; PackageVersion: Rev. B, 12/2012; PackageReference: 78127-1378; PackageDescription: 37-Lead FPC Connector, Pitch 0.5 mm; Circuits (maximum): 37; Contact Position: N/A; Entry Angle: Vertical; Number of Rows: 1; Orientation: Vertical; Packing: Tape and Reel; Pitch - Termination Interface: 0.50mm; Polarized to PCB: No; RoHS: TRUE; Stackable: No; Mounting Technology: Surface Mount; ComponentLink1Description: Manufacturer URL; ComponentLink1URL: http://www.molex.com/molex/index.jsp; ComponentLink2Description: Datasheet; ComponentLink2URL: http://www.molex.com/webdocs/datasheets/pdf/en-us/0781271378_FFC_FPC_CONNECTORS.pdf; ComponentLink3Description: Package Specification; ComponentLink3URL: http://www.molex.com/pdm_docs/sd/781271378_sd.pdf
footprint MOLX-78127-1378 (FPC Connector, 37-Leads, Vertical, Pitch 0.5 mm, Mated Height 4.1 mm, SMT)
pins: 1, 2, 3, 4, 5, 6, 7, 8, 9, 10, 11, 12, 13, 14, 15, 16, 17, 18, 19, 20, 21, 22, 23, 24, 25, 26, 27, 28, 29, 30, 31, 32, 33, 34, 35, 36, 37

## 78127-1388
designator J?
0.5 mm Pitch Easy-On(TM) Type FPC Connector, 4.1 mm Mated Height, Vertical, Non-ZIF, SMT, 38 Circuits, -40 to 85 degC, ELV and RoHS Compliant, Tape and Reel; Manufacturer: Molex; PartNumber: 78127-1388; Circuits (Loaded): 38; Current (Max per Contact): 0.5A; Durability (mating cycles max): 20; Mated Height: 4.10mm; Material - Metal: Copper Alloy; Material - Plating Mating: Gold, Nickel; PCB Locator: No; PCB Retention: None; Pitch - Mating Interface: 0.50mm; Voltage (Max): 50V AC; PackageVersion: Rev. B, 12/2012; PackageReference: 78127-1388; PackageDescription: 38-Lead FPC Connector, Pitch 0.5 mm; Circuits (maximum): 38; Contact Position: N/A; Entry Angle: Vertical; Number of Rows: 1; Orientation: Vertical; Packing: Tape and Reel; Pitch - Termination Interface: 0.50mm; Polarized to PCB: No; RoHS: TRUE; Stackable: No; Mounting Technology: Surface Mount; ComponentLink1Description: Manufacturer URL; ComponentLink1URL: http://www.molex.com/molex/index.jsp; ComponentLink2Description: Datasheet; ComponentLink2URL: http://www.molex.com/webdocs/datasheets/pdf/en-us/0781271388_FFC_FPC_CONNECTORS.pdf; ComponentLink3Description: Package Specification; ComponentLink3URL: http://www.molex.com/pdm_docs/sd/781271388_sd.pdf
footprint MOLX-78127-1388 (FPC Connector, 38-Leads, Vertical, Pitch 0.5 mm, Mated Height 4.1 mm, SMT)
pins: 1, 2, 3, 4, 5, 6, 7, 8, 9, 10, 11, 12, 13, 14, 15, 16, 17, 18, 19, 20, 21, 22, 23, 24, 25, 26, 27, 28, 29, 30, 31, 32, 33, 34, 35, 36, 37, 38

## 78127-1398
designator J?
0.5 mm Pitch Easy-On(TM) Type FPC Connector, 4.1 mm Mated Height, Vertical, Non-ZIF, SMT, 39 Circuits, -40 to 85 degC, ELV and RoHS Compliant, Tape and Reel; Manufacturer: Molex; PartNumber: 78127-1398; Circuits (Loaded): 39; Current (Max per Contact): 0.5A; Durability (mating cycles max): 20; Mated Height: 4.10mm; Material - Metal: Copper Alloy; Material - Plating Mating: Gold, Nickel; PCB Locator: No; PCB Retention: None; Pitch - Mating Interface: 0.50mm; Voltage (Max): 50V AC; PackageVersion: Rev. B, 12/2012; PackageReference: 78127-1398; PackageDescription: 39-Lead FPC Connector, Pitch 0.5 mm; Circuits (maximum): 39; Contact Position: N/A; Entry Angle: Vertical; Number of Rows: 1; Orientation: Vertical; Packing: Tape and Reel; Pitch - Termination Interface: 0.50mm; Polarized to PCB: No; RoHS: TRUE; Stackable: No; Mounting Technology: Surface Mount; ComponentLink1Description: Manufacturer URL; ComponentLink1URL: http://www.molex.com/molex/index.jsp; ComponentLink2Description: Datasheet; ComponentLink2URL: http://www.molex.com/webdocs/datasheets/pdf/en-us/0781271398_FFC_FPC_CONNECTORS.pdf; ComponentLink3Description: Package Specification; ComponentLink3URL: http://www.molex.com/pdm_docs/sd/781271398_sd.pdf
footprint MOLX-78127-1398 (FPC Connector, 39-Leads, Vertical, Pitch 0.5 mm, Mated Height 4.1 mm, SMT)
pins: 1, 2, 3, 4, 5, 6, 7, 8, 9, 10, 11, 12, 13, 14, 15, 16, 17, 18, 19, 20, 21, 22, 23, 24, 25, 26, 27, 28, 29, 30, 31, 32, 33, 34, 35, 36, 37, 38, 39

## 78127-1408
designator J?
0.5 mm Pitch Easy-On(TM) Type FPC Connector, 4.1 mm Mated Height, Vertical, Non-ZIF, SMT, 40 Circuits, -40 to 85 degC, ELV and RoHS Compliant, Tape and Reel; Manufacturer: Molex; PartNumber: 78127-1408; Circuits (Loaded): 40; Current (Max per Contact): 0.5A; Durability (mating cycles max): 20; Mated Height: 4.10mm; Material - Metal: Copper Alloy; Material - Plating Mating: Gold, Nickel; PCB Locator: No; PCB Retention: None; Pitch - Mating Interface: 0.50mm; Voltage (Max): 50V AC; PackageVersion: Rev. B, 12/2012; PackageReference: 78127-1408; PackageDescription: 40-Lead FPC Connector, Pitch 0.5 mm; Circuits (maximum): 40; Contact Position: N/A; Entry Angle: Vertical; Number of Rows: 1; Orientation: Vertical; Packing: Tape and Reel; Pitch - Termination Interface: 0.50mm; Polarized to PCB: No; RoHS: TRUE; Stackable: No; Mounting Technology: Surface Mount; ComponentLink1Description: Manufacturer URL; ComponentLink1URL: http://www.molex.com/molex/index.jsp; ComponentLink2Description: Datasheet; ComponentLink2URL: http://www.molex.com/webdocs/datasheets/pdf/en-us/0781271408_FFC_FPC_CONNECTORS.pdf; ComponentLink3Description: Package Specification; ComponentLink3URL: http://www.molex.com/pdm_docs/sd/781271408_sd.pdf
footprint MOLX-78127-1408 (FPC Connector, 40-Leads, Vertical, Pitch 0.5 mm, Mated Height 4.1 mm, SMT)
pins: 1, 2, 3, 4, 5, 6, 7, 8, 9, 10, 11, 12, 13, 14, 15, 16, 17, 18, 19, 20, 21, 22, 23, 24, 25, 26, 27, 28, 29, 30, 31, 32, 33, 34, 35, 36, 37, 38, 39, 40

## 104060-2017
designator J?
0.5 mm Pitch Easy-On(TM) Type FFC Connector, 2.5 mm Mated Height, Right Angle, ZIF, SMT, Bottom Contact, 20 Circuits, -20 to 85 degC, ELV and RoHS Compliant, Tape and Reel; Manufacturer: Molex; PartNumber: 104060-2017; Circuits (Loaded): 20; Current (Max per Contact): 0.5A; Entry Angle: 90degrees Angle; Mated Height: 2.50mm; Material - Metal: Phosphor Bronze; Material - Plating Mating: Gold; PCB Retention: Yes; Pitch - Mating Interface: 0.50mm; Stackable: No; Voltage (Max): 50V; PackageVersion: Rev. B, 05/2013; PackageReference: 104060-2017; PackageDescription: 20-Lead FFC Connector, Pitch 0.5 mm; Contact Position: Bottom; Material - Plating Termination: Gold; Number of Rows: 1; Orientation: Right Angle; Packing: Tape and Reel; Polarized to PCB: Yes; RoHS: TRUE; Mounting Technology: Surface Mount; ComponentLink1Description: Manufacturer URL; ComponentLink1URL: http://www.molex.com/molex/index.jsp; ComponentLink2Description: Datasheet; ComponentLink2URL: http://www.molex.com/webdocs/datasheets/pdf/en-us/1040602017_FFC_FPC_CONNECTORS.pdf; ComponentLink3Description: Package Specification; ComponentLink3URL: http://www.molex.com/pdm_docs/sd/1040602017_sd.pdf
footprint MOLX-104060-2017 (FFC Connector, 20-Leads, Right Angle, Pitch 0.5 mm, Mated Height 2.5 mm, SMT)
pins: 1, 2, 3, 4, 5, 6, 7, 8, 9, 10, 11, 12, 13, 14, 15, 16, 17, 18, 19, 20, MP1, MP2

## 104060-6017
designator J?
0.5 mm Pitch Easy-On(TM) Type FFC Connector, 2.5 mm Mated Height, Right Angle, ZIF, SMT, Bottom Contact, 60 Circuits, -20 to 85 degC, ELV and RoHS Compliant, Tape and Reel; Manufacturer: Molex; PartNumber: 104060-6017; Circuits (Loaded): 60; Current (Max per Contact): 0.5A; Entry Angle: 90degrees Angle; Mated Height: 2.50mm; Material - Metal: Phosphor Bronze; Material - Plating Mating: Gold; PCB Retention: Yes; Pitch - Mating Interface: 0.50mm; Stackable: No; Voltage (Max): 50V; PackageVersion: Rev. A, 06/2010; PackageReference: 104060-6017; PackageDescription: 60-Lead FFC Connector, Pitch 0.5 mm; Contact Position: Bottom; Material - Plating Termination: Gold; Number of Rows: 1; Orientation: Right Angle; Packing: Tape and Reel; Polarized to PCB: Yes; RoHS: TRUE; Mounting Technology: Surface Mount; ComponentLink1Description: Manufacturer URL; ComponentLink1URL: http://www.molex.com/molex/index.jsp; ComponentLink2Description: Datasheet; ComponentLink2URL: http://www.molex.com/webdocs/datasheets/pdf/en-us/1040606017_FFC_FPC_CONNECTORS.pdf; ComponentLink3Description: Package Specification; ComponentLink3URL: http://www.molex.com/pdm_docs/sd/1040606017_sd.pdf
footprint MOLX-104060-6017 (FFC Connector, 60-Leads, Right Angle, Pitch 0.5 mm, Mated Height 2.5 mm, SMT)
pins: 1, 2, 3, 4, 5, 6, 7, 8, 9, 10, 11, 12, 13, 14, 15, 16, 17, 18, 19, 20, 21, 22, 23, 24, 25, 26, 27, 28, 29, 30, 31, 32, 33, 34, 35, 36, 37, 38, 39, 40, 41, 42, 43, 44, 45, 46, 47, 48, 49, 50, 51, 52, 53, 54, 55, 56, 57, 58, 59, 60, MP1, MP2

## 104060-8017
designator J?
0.5 mm Pitch Easy-On(TM) Type FFC Connector, 2.5 mm Mated Height, Right Angle, ZIF, SMT, Bottom Contact, 80 Circuits, -20 to 85 degC, ELV and RoHS Compliant, Tape and Reel; Manufacturer: Molex; PartNumber: 104060-8017; Circuits (Loaded): 80; Current (Max per Contact): 0.5A; Entry Angle: 90degrees Angle; Mated Height: 2.50mm; Material - Metal: Phosphor Bronze; Material - Plating Mating: Gold; PCB Retention: Yes; Pitch - Mating Interface: 0.50mm; Stackable: No; Voltage (Max): 50V; PackageVersion: Rev. A, 06/2010; PackageReference: 104060-8017; PackageDescription: 80-Lead FFC Connector, Pitch 0.5 mm; Contact Position: Bottom; Material - Plating Termination: Gold; Number of Rows: 1; Orientation: Right Angle; Packing: Tape and Reel; Polarized to PCB: Yes; RoHS: TRUE; Mounting Technology: Surface Mount; ComponentLink1Description: Manufacturer URL; ComponentLink1URL: http://www.molex.com/molex/index.jsp; ComponentLink2Description: Datasheet; ComponentLink2URL: http://www.molex.com/webdocs/datasheets/pdf/en-us/1040608017_FFC_FPC_CONNECTORS.pdf; ComponentLink3Description: Package Specification; ComponentLink3URL: http://www.molex.com/pdm_docs/sd/1040608017_sd.pdf
footprint MOLX-104060-8017 (FFC Connector, 80-Leads, Right Angle, Pitch 0.5 mm, Mated Height 2.5 mm, SMT)
pins: 1, 2, 3, 4, 5, 6, 7, 8, 9, 10, 11, 12, 13, 14, 15, 16, 17, 18, 19, 20, 21, 22, 23, 24, 25, 26, 27, 28, 29, 30, 31, 32, 33, 34, 35, 36, 37, 38, 39, 40, 41, 42, 43, 44, 45, 46, 47, 48, 49, 50, 51, 52, 53, 54, 55, 56, 57, 58, 59, 60, 61, 62, 63, 64, 65, 66, 67, 68, 69, 70, 71, 72, 73, 74, 75, 76, 77, 78, 79, 80, MP1, MP2

## 104075-6817
designator J?
0.5 mm Pitch Easy-On(TM) Type FPC/FFC Connector, 1.5 mm Mated Height, Right Angle, ZIF, SMT, Bottom Contact, 68 Circuits, -25 to 85 degC, ELV and RoHS Compliant, Tape and Reel; Manufacturer: Molex; PartNumber: 104075-6817; Circuits (Loaded): 68; Contact Position: Top; Current (Max per Contact): 0.5A; Entry Angle: 90degrees Angle (Side Entry); Mated Height: 1.50mm; Material - Metal: Phosphor Bronze; Material - Plating Mating: Gold over Nickel; PCB Retention: None; Pitch - Mating Interface: 0.50mm; Polarized to PCB: No; Voltage (Max): 50V; PackageVersion: Rev. A, 11/2011; PackageReference: 104075-6817; PackageDescription: 68-Lead FPC/FFC Connector, Pitch 0.5 mm; Circuits (maximum): 68; Number of Rows: 1; Orientation: Right Angle; Packing: Tape and Reel; RoHS: TRUE; Stackable: No; Mounting Technology: Surface Mount; ComponentLink1Description: Manufacturer URL; ComponentLink1URL: http://www.molex.com/molex/index.jsp; ComponentLink2Description: Datasheet; ComponentLink2URL: http://www.molex.com/webdocs/datasheets/pdf/en-us/1040756817_FFC_FPC_CONNECTORS.pdf; ComponentLink3Description: Package Specification; ComponentLink3URL: http://www.molex.com/pdm_docs/sd/1040756817_sd.pdf
footprint MOLX-104075-6817 (FPC/FFC Connector, 68-Leads, Right Angle, Pitch 0.5 mm, Mated Height 1.5 mm, SMT)
pins: 1, 2, 3, 4, 5, 6, 7, 8, 9, 10, 11, 12, 13, 14, 15, 16, 17, 18, 19, 20, 21, 22, 23, 24, 25, 26, 27, 28, 29, 30, 31, 32, 33, 34, 35, 36, 37, 38, 39, 40, 41, 42, 43, 44, 45, 46, 47, 48, 49, 50, 51, 52, 53, 54, 55, 56, 57, 58, 59, 60, 61, 62, 63, 64, 65, 66, 67, 68, MP1, MP2